# EAGLE library part NRF24L01 (library BaseApp)
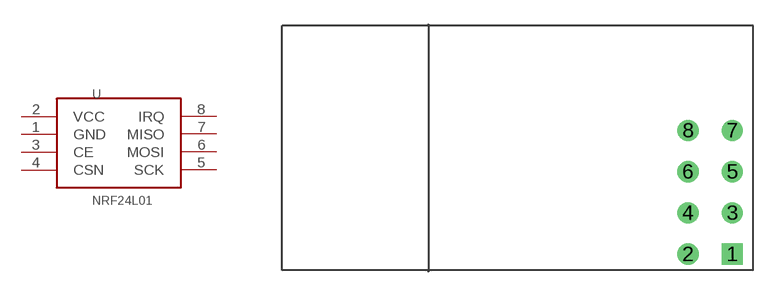
[diagram p80: symbol with the pads of NRF24L01; footprint NRF24L01]

Designator prefix -

## NRF24L01  [NRF24L01]
1  GND
2  VCC
3  CE
4  CSN
5  SCK
6  MOSI
7  MISO
8  IRQ

## Footprint NRF24L01 (pad centres in mm)
drill 0.8 square: 1 15.27,-5.27
drill 0.8: 2 12.54,-5.27; 3 15.27,-2.73; 4 12.54,-2.73; 5 15.27,-0.19; 6 12.54,-0.19; 7 15.27,2.35; 8 12.54,2.35